# Altium footprint library [Fuse Holder] 178.6165.0002.PcbLib: 1 footprints
Each footprint in its own frame and in the unit in brackets; x right, y up, seen from the top. Pads: shape width x height; smd on the part's side, far side on the other; paste and mask are expansions set on the pad; w line width, h text height; cw(c..) or ccw(c..) is an arc to the next point about the centre after c.
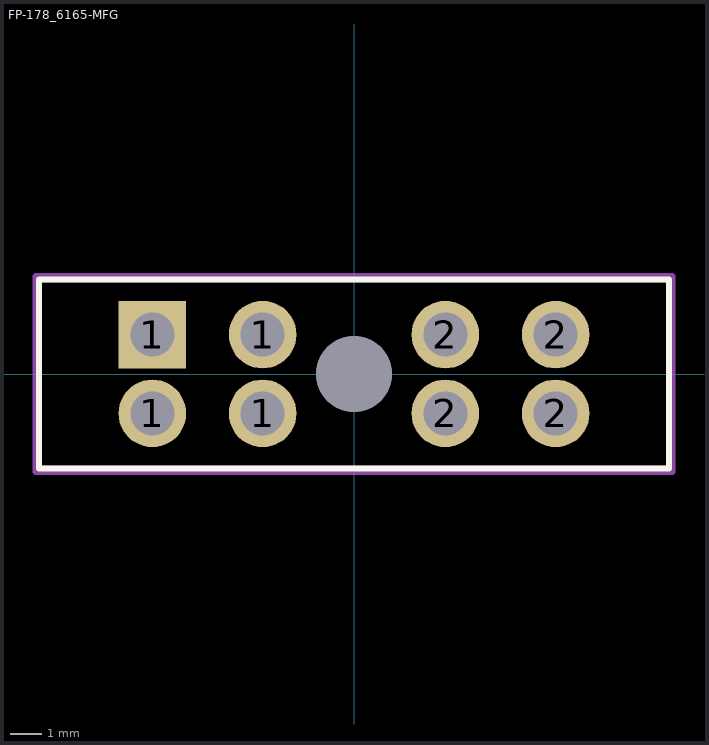
[diagram p0: the footprint, top view; thin cyan lines are the x and y axes]

## FP-178_6165-MFG [mm]
pads (9):
  round 2.15 hole 1.4 paste-1000 mask+0: 1(-6.4,-1.25) 1(-2.9,-1.25) 1(-2.9,1.25) 2(2.9,-1.25) 2(2.9,1.25) 2(6.4,-1.25) 2(6.4,1.25)
  rect 2.15x2.15 hole 1.4 paste-1000 mask+0: 1(-6.4,1.25)
  round 2.4 hole 2.4 unplated paste-1000 mask+0: ""(0,0)
Top Overlay:
  lines w0.2: -10,-3 -10,3 10,3 10,-3 -10,-3
Top Assembly:
  lines w0.2: -10.1,-3.1 -10.1,3.1 10.1,3.1 10.1,-3.1 -10.1,-3.1
  text ".Designator" at 0,0 h1
Top 3D Body:
  lines w0.2: -10,-3 -10,3 10,3 10,-3 -10,-3
Top Courtyard:
  lines w0.2: -10.1,-3.1 -10.1,3.1 10.1,3.1 10.1,-3.1 -10.1,-3.1
Top Component Center:
  lines w0.1: -0.5,0 0.5,0 ; 0,-0.5 0,0.5
3D body "Fuse_Littelfuse_178_6165_0002_eec.STEP": height 0.25, standoff 0, extent -10.1,-3.1 10.1,3.1